# EAGLE library part 74HC595 (library sj_ic)
74HC595 8-bit Shift Register with Output Latch
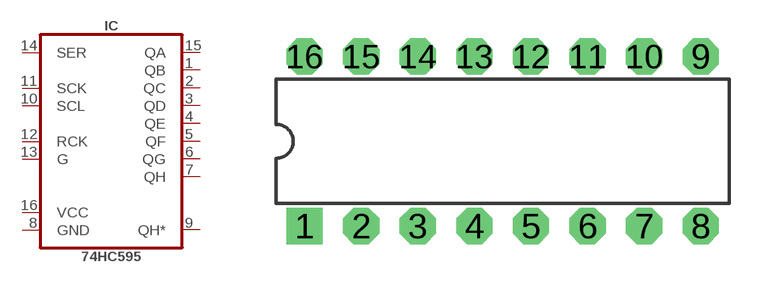
[diagram p2: symbol with the pads of DIP16; footprint DIP16]

Designator prefix IC

## 74HC595  [DIP16]
1  QB  hiz
2  QC  hiz
3  QD  hiz
4  QE  hiz
5  QF  hiz
6  QG  hiz
7  QH  hiz
8  GND  pwr
9  QH*  hiz
10  SCL  in
11  SCK  in
12  RCK  in
13  G  in
14  SER  in
15  QA  hiz
16  VCC  pwr

## Footprint DIP16 (pad centres in mm)
16-pin Dual In Line Package
drill 0.813 pad 1.626 square: 1 -8.89,-3.81
drill 0.813 pad 1.626 octagon: 2 -6.35,-3.81; 3 -3.81,-3.81; 4 -1.27,-3.81; 5 1.27,-3.81; 6 3.81,-3.81; 7 6.35,-3.81; 8 8.89,-3.81; 9 8.89,3.81; 10 6.35,3.81; 11 3.81,3.81; 12 1.27,3.81; 13 -1.27,3.81; 14 -3.81,3.81; 15 -6.35,3.81; 16 -8.89,3.81